# EAGLE library part JS5208 (library pimoroni)
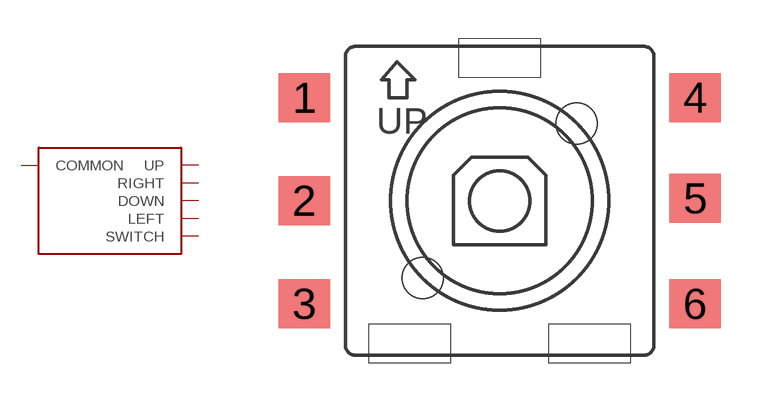
[diagram p44: symbol with the pads of JS5208; footprint JS5208]

Designator prefix -

## JS5208  [JS5208]
1  COMMON
2  LEFT
3  SWITCH
4  UP
5  RIGHT
6  DOWN

## Footprint JS5208 (pad centres in mm)
smd 2 x 1.9: 1 -7.6,4; 2 -7.6,0; 3 -7.6,-4; 4 7.6,4; 5 7.6,0.1; 6 7.6,-4
hole 1.6 at -3,-3
hole 1.6 at 3,3